# Altium schematic symbol library PTS641TK31SMTR2LFS.SchLib: 1 symbol
Pins are listed as number, name and electrical type; pins without a type are passive.

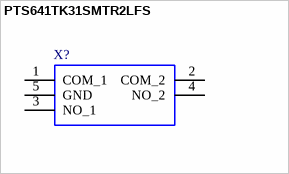
[diagram p0: symbol PTS641TK31SMTR2LFS]

## PTS641TK31SMTR2LFS
designator X?
Tactile Switches 50mA 250VAC, 250gf Grnd Pin, 3.1mm Hght; Manufacturer_Name: C & K COMPONENTS; Manufacturer_Part_Number: PTS641TK31SMTR2LFS; Mouser Part Number: 611-PTS641TK31SMTR2; Mouser Price/Stock: https://www.mouser.co.uk/ProductDetail/CK/PTS641TK31SMTR2LFS?qs=%252B1mt6%252Bz2kvx0Ym6FlfvoiA%3D%3D; Arrow Part Number: *; Arrow Price/Stock: *; Mouser Testing Part Number: *; Mouser Testing Price/Stock: *; Datasheet Link: https://ru.mouser.com/datasheet/2/60/pts641-1382639.pdf; Geometry.Height: 3.1mm
footprint PTS641TK31SMTR2LFS
pins: 1 COM_1, 2 COM_2, 3 NO_1, 4 NO_2, 5 GND